# EAGLE library part TLP2105 (library user_ic)
二回路入り高速フォトカプラ ステートバッファ出力 秋月電子で買える 100nSほどの遅延
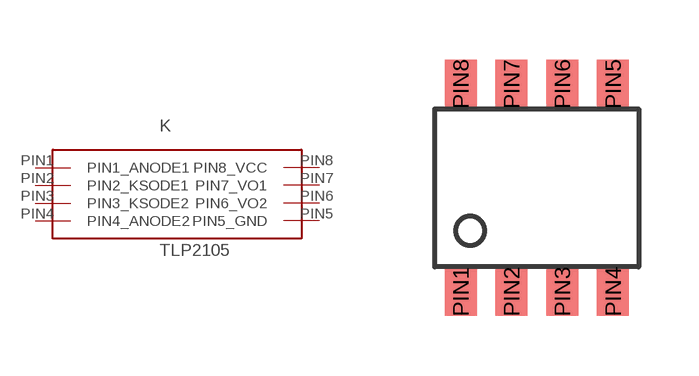
[diagram p13: symbol with the pads of SOP8; footprint SOP8]

Designator prefix K

## TLP2105  [SOP8]
PIN1  PIN1_ANODE1
PIN2  PIN2_KSODE1
PIN3  PIN3_KSODE2
PIN4  PIN4_ANODE2
PIN5  PIN5_GND
PIN6  PIN6_VO2
PIN7  PIN7_VO1
PIN8  PIN8_VCC

## Footprint SOP8 (pad centres in mm)
時々SOICと表記されていることがある。 データシートを見て、半導体の幅を確認して問題ないか見ること 幅3.9mm
smd 0.8 x 1.2: PIN1 0.65,-4.57; PIN2 1.92,-4.57; PIN3 3.19,-4.57; PIN4 4.46,-4.57; PIN5 4.46,0.62; PIN6 3.19,0.62; PIN7 1.92,0.62; PIN8 0.65,0.62